# Altium integrated library CGA4C2C0G1H472J060AA.IntLib: 1 symbol
Pins are listed as number, name and electrical type; pins without a type are passive.

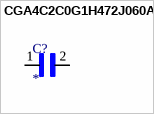
[diagram p0: symbol CGA4C2C0G1H472J060AA]

## CGA4C2C0G1H472J060AA
designator C?
4700 pF Â±5% 50V Ceramic Capacitor C0G, NP0 0805 (2012 Metric); MF: TDK; MP: CGA4C2C0G1H472J060AA; Availability: In Stock; Purchase-URL: https://pricing.snapeda.com/search/part/CGA4C2C0G1H472J060AA/?ref=eda; SnapEDA_Link: https://www.snapeda.com/parts/CGA4C2C0G1H472J060AA/TDK/view-part/?ref=snap; Price: None; Check_prices: https://www.snapeda.com/parts/CGA4C2C0G1H472J060AA/TDK/view-part/?ref=eda; Package: 2012 TDK; Value: *
footprint CAPC2012X75N
pins: 1, 2